# Altium schematic symbol library DWM1000.SCHLIB: 1 symbol
Pins are listed as number, name and electrical type; pins without a type are passive.

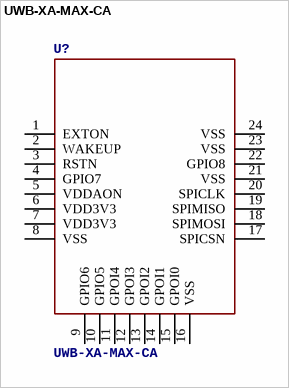
[diagram p0: symbol UWB-XA-MAX-CA]

## UWB-XA-MAX-CA
designator U?
footprint UWB-X1-MAK-CA
pins: 1 EXTON, 2 WAKEUP, 3 RSTN, 4 GPIO7, 5 VDDAON, 6 VDD3V3, 7 VDD3V3, 8 VSS, 9 GPIO6, 10 GPIO5, 11 GPOI4, 12 GPOI3, 13 GPOI2, 14 GPOI1, 15 GPOI0, 16 VSS, 17 SPICSN, 18 SPIMOSI, 19 SPIMISO, 20 SPICLK, 21 VSS, 22 GPIO8, 23 VSS, 24 VSS